# EAGLE library part SI5351 (library Ham Radio)
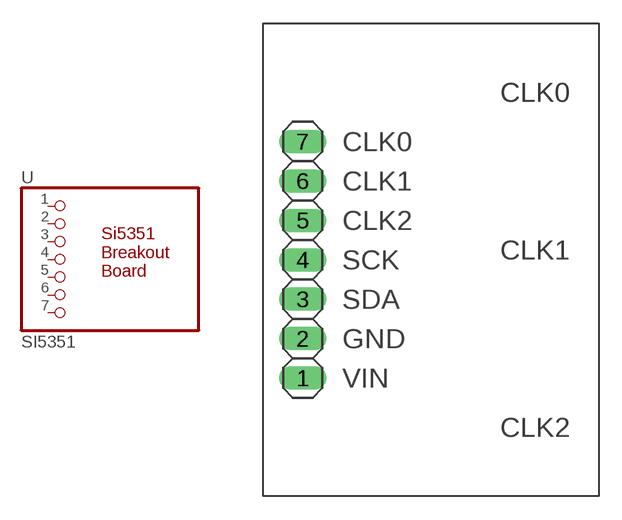
[diagram p3: symbol with the pads of 1X07; footprint 1X07]

Designator prefix U

## SI5351  [1X07]
1  1  pas
2  2  pas
3  3  pas
4  4  pas
5  5  pas
6  6  pas
7  7  pas

## Footprint 1X07 (pad centres in mm)
PIN HEADER
drill 1.016 long: 1 2.54,7.62; 2 2.54,10.16; 3 2.54,12.7; 4 2.54,15.24; 5 2.54,17.78; 6 2.54,20.32; 7 2.54,22.86